# EAGLE library part _REG_3.3V_2A_TSOT-26_(3.8-32V)_(AP63203WU) (library SamacSys_Parts)
Switching Voltage Regulators DCDC Conv HV Buck TSOT26 T&R 3K Source: Datasheet <https://componentsearchengine.com/Datasheets/1/AP63203WU-7.pdf>
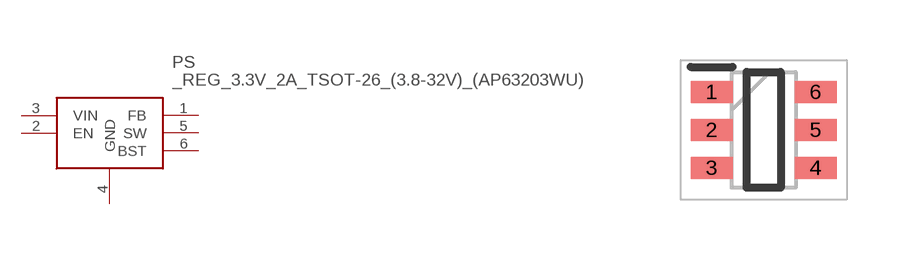
[diagram p12: symbol with the pads of SOT95P280X100-6N; footprint SOT95P280X100-6N]

Designator prefix PS

## _REG_3.3V_2A_TSOT-26_(3.8-32V)_(AP63203WU) (DESCRIPTION: Switching Voltage Regulators DCDC Conv HV Buck TSOT26 T&R 3K; HEIGHT: 1mm; MANUFACTURER_NAME: Diodes Inc.; MANUFACTURER_PART_NUMBER: AP63203WU-7; MOUSER_PART_NUMBER: 621-AP63203WU-7; MOUSER_PRICE-STOCK: https://www.mouser.co.uk/ProductDetail/Diodes-Incorporated/AP63203WU-7?qs=u16ybLDytRZ1JqxbuLkMJw%3D%3D)  [SOT95P280X100-6N]
1  FB  in
2  EN  in
3  VIN  pwr
4  GND  pwr
5  SW  out
6  BST  in

## Footprint SOT95P280X100-6N (pad centres in mm)
TSOT26_
smd 1.05 x 0.55: 1 -1.3,0.95; 2 -1.3,0; 3 -1.3,-0.95; 4 1.3,-0.95; 5 1.3,0; 6 1.3,0.95